# EAGLE library part HD7740 (library display-hp)
LED DISPLAY 1-character 7 segment, decimal point right
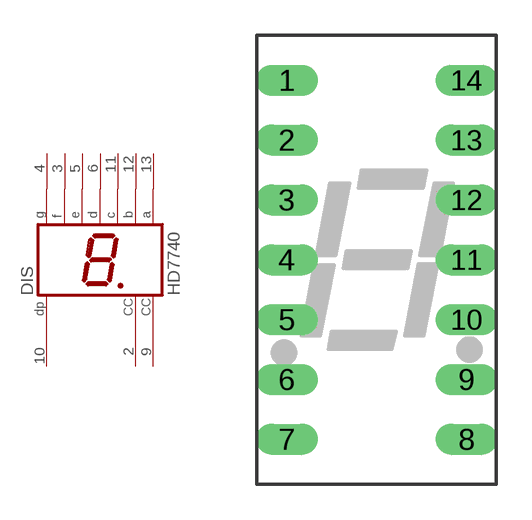
[diagram p34: symbol with the pads of HD7730; footprint HD7730]

Designator prefix DIS

## HD7740 (OC_FARNELL: unknown; OC_NEWARK: unknown)  [HD7730]
2  CC  pas
3  F  pas
4  G  pas
5  E  pas
6  D  pas
9  CC  pas
10  DP  pas
11  C  pas
12  B  pas
13  A  pas

## Footprint HD7730 (pad centres in mm)
LED DISPLAY 8-mm 1 character 7 segment, 2 decimal points
drill 0.813 long: 1 -3.81,7.62; 2 -3.81,5.08; 3 -3.81,2.54; 4 -3.81,0; 5 -3.81,-2.54; 6 -3.81,-5.08; 7 -3.81,-7.62; 8 3.81,-7.62; 9 3.81,-5.08; 10 3.81,-2.54; 11 3.81,0; 12 3.81,2.54; 13 3.81,5.08; 14 3.81,7.62